# Altium footprint library tecctrl.PcbLib: 33 footprints (part 1 of 3)
Each footprint in its own frame and in the unit in brackets; x right, y up, seen from the top. Pads: shape width x height; smd on the part's side, far side on the other; paste and mask are expansions set on the pad; w line width, h text height; cw(c..) or ccw(c..) is an arc to the next point about the centre after c.
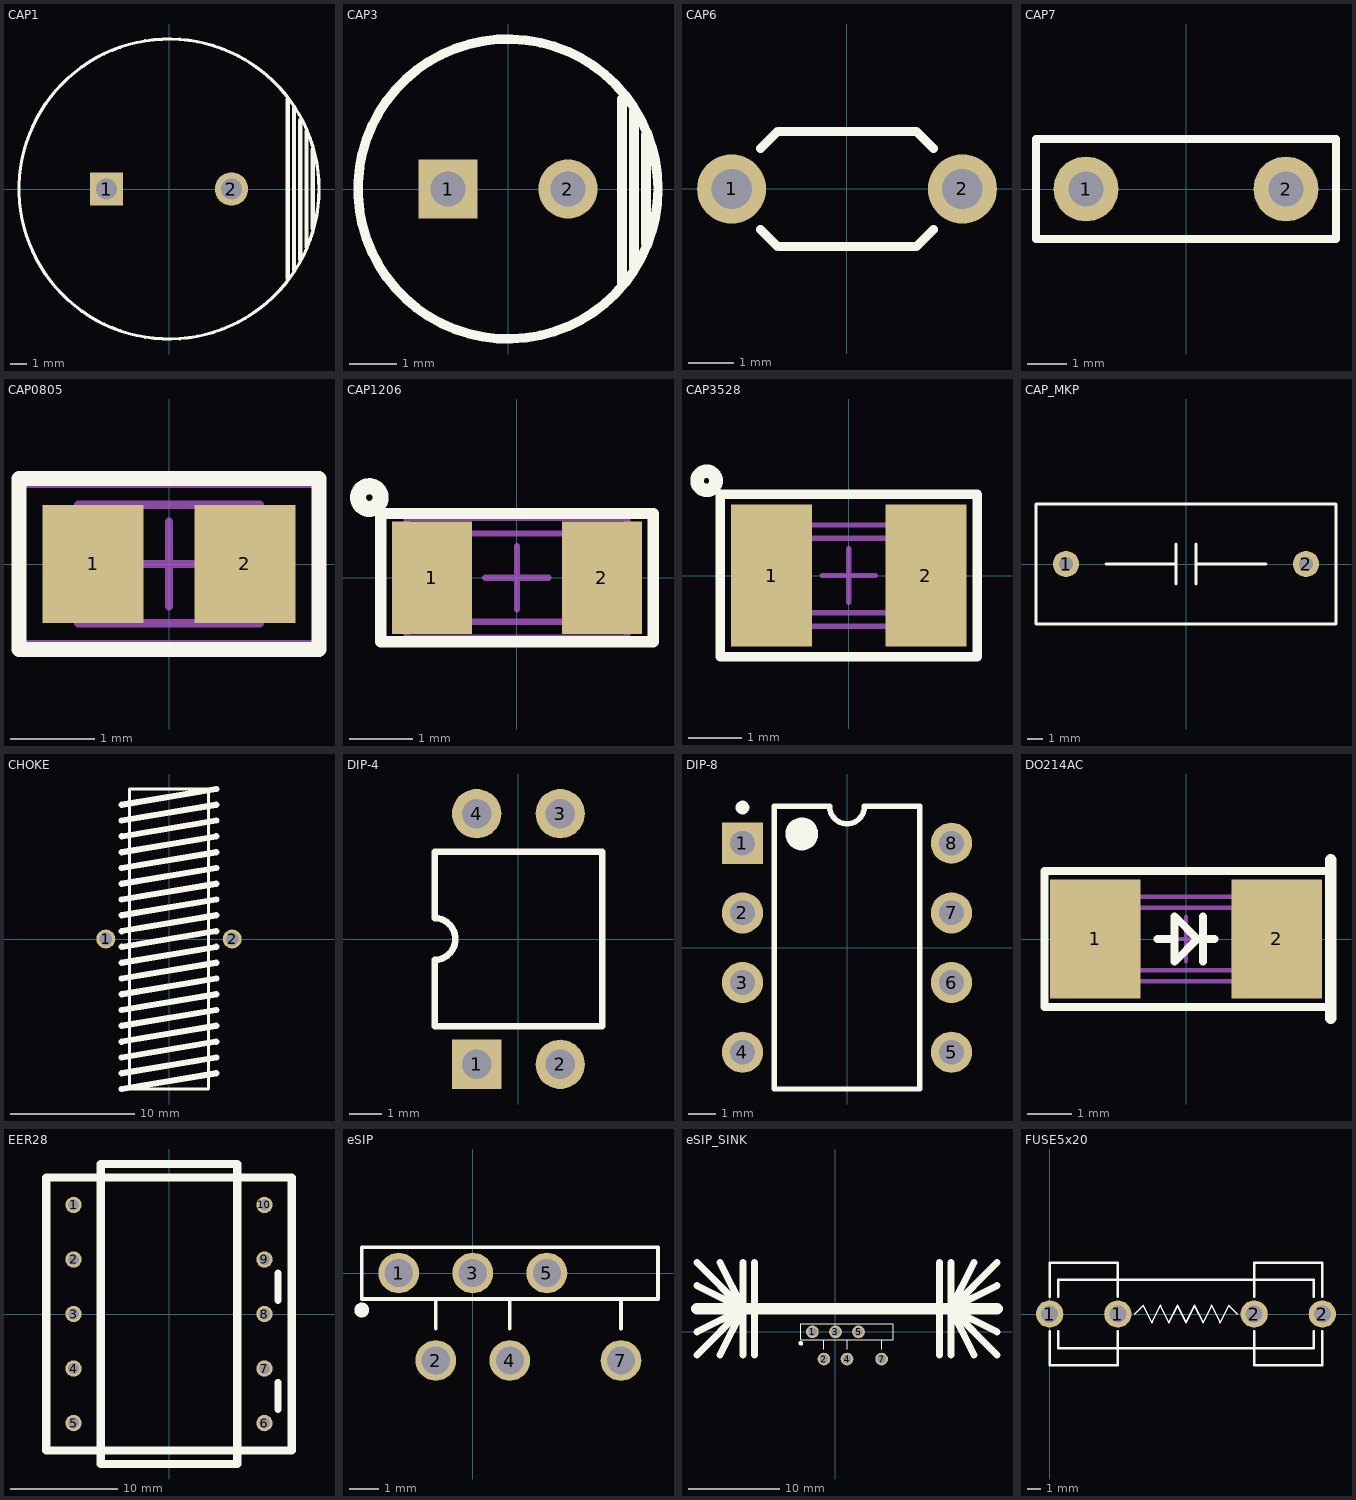
[diagram p0: the footprints below, top view; thin cyan lines are the x and y axes]

## CAP1 [mil]
height 1000
pads (2):
  rect 80x80 hole 50: 1(-150,0)
  round 80 hole 50: 2(150,0)
Top Overlay:
  circle w7.87: c0,0 r360
  lines w10: 285,-215 285,215 ; 300,-195 300,195 ; 315,-170 315,165 ; 330,-140 330,140 ; 345,-95 345,95
3D body: height 1304.29, standoff -251.22, extent -354.33,-354.32 354.72,354.34

## CAP3 [mm] "Capacitor, Electrolytic, Radial; Body 5 x 6.8 mm (Dia.xH typ); Pin Spacing 2 mm (typ)"
pads (2):
  rect 1.25x1.25 hole 0.75: 1(-1.27,0)
  round 1.25 hole 0.75: 2(1.27,0)
Top Overlay:
  circle w0.2: c0,0 r3.176
  lines w0.203: 2.413,-2.032 2.413,1.905 ; 2.667,-1.651 2.667,1.651 ; 2.921,-1.143 2.921,1.143
3D body: height 11.53, standoff -3.01, extent -3.176,-3.175 3.175,3.175

## CAP6 [mil]
height 236.22
pads (2):
  round 60 hole 35: 1(-100,0) 2(100,0)
Top Overlay:
  lines w7.87: -75,-35 -60,-50 60,-50 75,-35 ; -75,35 -60,50 60,50 75,35
3D body: height 257.48, standoff -98.43, extent -108.27,-50 108.27,48.43

## CAP7 [mm]
height 6
pads (2):
  round 1.65 hole 0.889: 1(-2.54,0) 2(2.54,0)
Top Overlay:
  lines w0.2: -3.81,-1.27 -3.81,1.27 3.81,1.27 3.81,-1.27 -3.81,-1.27
3D body: height 10.86, standoff -1.71, extent -4,-1.27 4,1.24

## CAP0805 [mm]
height 0.762
pads (2):
  rect 1.2x1.4 smd: 1(-0.9,0) 2(0.9,0)
Top Overlay:
  lines w0.178: -1.778,-1.016 -1.778,1.016 1.778,1.016 1.778,-1.016 -1.778,-1.016
Mechanical 13:
  lines w0.1: -1.075,-0.7 1.075,-0.7 1.075,0.7 -1.075,0.7 -1.075,-0.7
Mechanical 15:
  lines w0.1: -0.5,0 0.5,0 ; 0,-0.5 0,0.5 ; -1.75,-0.95 1.75,-0.95 1.75,0.95 -1.75,0.95 -1.75,-0.95
3D body: height 0.78, standoff 0, extent -1,-0.625 1,0.625

## CAP1206 [mil]
height 30
pads (2):
  rect 50x70 smd: 1(-53,0) 2(53,0)
Top Overlay:
  circle w10: c-92.07,50 r7.07
  lines w7: -85,-40 85,-40 85,40 -85,40 -85,-40
Mechanical 13:
  lines w3.94: -42.32,-27.56 -42.32,27.56 42.32,27.56 42.32,-27.56 -42.32,-27.56
Mechanical 15:
  lines w3.94: -19.68,0 19.69,0 ; 0,-19.68 0,19.69 ; -68.9,-37.4 -68.9,37.4 68.9,37.4 68.9,-37.4 -68.9,-37.4
3D body: height 67.32, standoff 0, extent -66.93,-33.07 66.93,33.07

## CAP3528 [mil]
height 30
pads (2):
  rect 60x105 smd: 1(-57,0) 2(57,0)
Top Overlay:
  circle w10: c-105,70 r7.07
  lines w7: -95,-60 95,-60 95,60 -95,60 -95,-60
Mechanical 13:
  lines w3.94: -42.32,-27.56 -42.32,27.56 42.32,27.56 42.32,-27.56 -42.32,-27.56
Mechanical 15:
  lines w3.94: -19.68,0 19.69,0 ; 0,-19.68 0,19.69 ; -68.9,-37.4 -68.9,37.4 68.9,37.4 68.9,-37.4 -68.9,-37.4
3D body: height 79.92, standoff 0, extent -72.84,-57.35 72.84,58

## CAP_MKP [mm]
height 6
pads (2):
  round 1.65 hole 0.889: 1(-7.62,0) 2(7.62,0)
Top Overlay:
  lines w0.2: -5.08,0 -0.635,0 ; -0.635,-1.27 -0.635,1.27 ; 0.635,-1.27 0.635,1.27 ; 0.635,0 5.08,0 ; -9.525,-3.81 9.525,-3.81 9.525,3.81 -9.525,3.81 -9.525,-3.81
3D body: height 16.67, standoff -3.32, extent -9.5,-4 9.5,4

## CHOKE [mil]
pads (2):
  round 60 hole 40: 1(-200,0) 2(200,0)
Top Overlay:
  lines w10: -125,-475 125,-475 125,475 -125,475 -125,-475
  lines w20: -150,-475 150,-425 ; -150,-425 150,-375 ; -150,-375 150,-325 ; -150,-325 150,-275 ; -150,-275 150,-225 ; -150,-225 150,-175 ; -150,-175 150,-125 ; -150,-125 150,-75 ; -150,-75 150,-25 ; -150,-25 150,25 ; -150,25 150,75 ; -150,75 150,125 ; -150,125 150,175 ; -150,175 150,225 ; -150,225 150,275 ; -150,275 150,325 ; -150,325 150,375 ; -150,375 150,425 ; -150,425 150,475
3D body: height 1099.97, standoff -156.46, extent -234,-500.16 236,500.16

## DIP-4 [mm] "DIP; 4 Leads; Row Spacing 7.62 mm; Pitch 2.54 mm"
height 5.6
pads (4):
  rect 1.5x1.5 hole 0.9: 1(-1.27,-3.81)
  round 1.5 hole 0.9: 2(1.27,-3.81) 3(1.27,3.81) 4(-1.27,3.81)
Top Overlay:
  lines w0.2: -2.55,-2.65 -2.55,-0.635 ccw(c-2.55,0) -2.55,0.635 -2.55,2.65 2.55,2.65 2.55,-2.65 -2.55,-2.65
3D body: height 5.58, standoff -2.01, extent -2.746,-3.937 2.794,4.063

## DIP-8 [mm] "DIP; 8 Leads; Row Spacing 7.62 mm; Pitch 2.54 mm"
height 5.08
pads (8):
  rect 1.5x1.5 hole 0.9: 1(-3.81,3.81)
  round 1.5 hole 0.9: 2(-3.81,1.27) 3(-3.81,-1.27) 4(-3.81,-3.81) 5(3.81,-3.81) 6(3.81,-1.27) 7(3.81,1.27) 8(3.81,3.81)
Top Overlay:
  circle w0.25: c-3.81,5.11 r0.125
  circle w0.6: c-1.65,4.15 r0.3
  lines w0.2: -2.65,-5.15 -2.65,5.15 -0.635,5.15 ccw(c0,5.15) 0.635,5.15 2.65,5.15 2.65,-5.15 -2.65,-5.15
3D body: height 5.08, standoff -3.5, extent -3.935,-5.333 3.935,5.587

## DO214AC [mil]
height 30
pads (2):
  rect 80x105 smd: 1(-80,0) 2(80,0)
Top Overlay:
  lines w7: -25,0 -10,0 ; 15,-20 15,20 ; 15,0 25,0 ; 125,-60 -125,-60 -125,60 125,60 ; -10,-20 -10,20 10,0 -10,-20
  lines w10: 128,-70 128,70
Mechanical 13:
  lines w3.94: -42.32,-27.56 -42.32,27.56 42.32,27.56 42.32,-27.56 -42.32,-27.56
Mechanical 15:
  lines w3.94: -19.68,0 19.69,0 ; 0,-19.68 0,19.69 ; -68.9,-37.4 -68.9,37.4 68.9,37.4 68.9,-37.4 -68.9,-37.4
3D body: height 90, standoff 0, extent -108.01,-55 107.99,54.99

## EER28 [mil]
pads (10):
  round 60 hole 40: 1(-350,400) 2(-350,200) 3(-350,0) 4(-350,-200) 5(-350,-400) 6(350,-400) 7(350,-200) 8(350,0) 9(350,200) 10(350,400)
Top Overlay:
  lines w25: 400,-350 400,-250 ; 400,50 400,150
  lines w30: -450,-500 -250,-500 250,-500 450,-500 450,500 250,500 -250,500 -450,500 -450,-500 ; -250,-550 250,-550 250,550 -250,550 -250,-550
3D body: height 937.4, standoff -105.91, extent -370.08,-510 370.08,513.62

## eSIP [mil] "TopSwitch JX"
pads (6):
  round 55 hole 38: 1(-100,0) 2(-50,-118.11) 3(0,0) 4(50,-118.11) 5(100,0) 7(200,-118.11)
Top Overlay:
  circle w10: c-150,-50 r5
  lines w5: -50,-75 -50,-35 ; 50,-75 50,-35 ; 200,-75 200,-35 ; -150,-35 250,-35 250,35 -150,35 -150,-35
3D body: height 455, standoff -65, extent -150,-125 250,52.5

## eSIP_SINK [mil] "TopSwitch JX"
pads (6):
  round 55 hole 38: 1(-100,0) 2(-50,-118.11) 3(0,0) 4(50,-118.11) 5(100,0) 7(200,-118.11)
Top Overlay:
  circle w10: c-150,-50 r5
  lines w5: -50,-75 -50,-35 ; 50,-75 50,-35 ; 200,-75 200,-35 ; -150,-35 250,-35 250,35 -150,35 -150,-35
  lines w30: -600,-100 -400,100 ; -600,0 -400,100 ; -600,200 -400,100 ; -600,300 -400,100 ; -500,-100 -400,100 ; -500,300 -400,100 ; -400,-100 -400,100 ; -400,300 -400,100 ; -350,-100 -350,100 -350,300 ; 450,-100 450,100 450,300 ; 500,-100 500,100 ; 500,300 500,100 ; 600,-100 500,100 ; 600,300 500,100 ; 700,-100 500,100 ; 700,0 500,100 ; 700,200 500,100 ; 700,300 500,100
  lines w50: -600,100 700,100
3D body: height 994.25, standoff -123.86, extent -615.71,-140 715,316.69
3D body: height 455, standoff -65, extent -150,-125 250,52.5

## FUSE5x20 [mil]
height 650
pads (4):
  round 80 hole 50: 1(0,0) 1(200,0) 2(600,0) 2(800,0)
Top Overlay:
  lines w5: 250,0 275,25 300,-25 325,25 350,-25 375,25 400,-25 425,25 450,-25 475,25 500,-25 525,25 550,0
  lines w7: 0,-50 0,-150 200,-150 200,-50 ; 0,50 0,150 200,150 200,50 ; 25,-50 25,-100 775,-100 775,-50 ; 25,50 25,100 775,100 775,50 ; 600,-50 600,-150 800,-150 800,-50 ; 600,50 600,150 800,150 800,50
3D body: height 456.53, standoff -111.22, extent 589.69,-151.63 810.31,151.63
3D body: height 456.53, standoff -111.22, extent -10.31,-151.63 210.31,151.63
3D body: height 427.36, standoff 222.64, extent 6.3,-100 793.7,104.72